# EAGLE library part 431183015816 (library Wurth_Elektronik_Electromechanic_Switchs_rev15b)
WS-TSS-5x5 mm J-Bend SMD Tact Switch with ground terminal, 4 pins
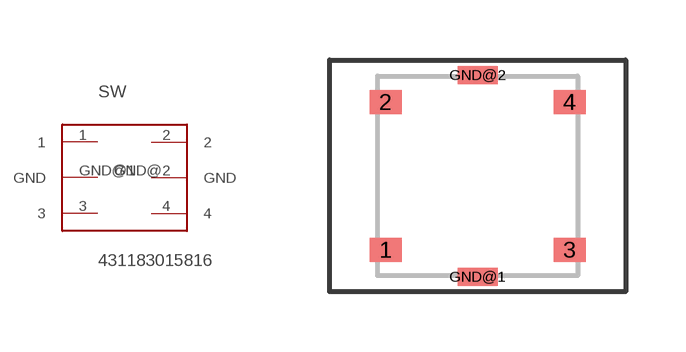
[diagram p139: symbol with the pads of 431183015816; footprint 431183015816]

Designator prefix SW

## 431183015816  [431183015816]
1  1
2  2
3  3
4  4
GND@1  GND
GND@2  GND

## Footprint 431183015816 (pad centres in mm)
WS-TSS-5x5 mm J-Bend SMD Tact Switch with ground terminal, 4 pins
smd 0.8 x 0.6: 1 -2.3,-1.85; 2 -2.3,1.85; 3 2.3,-1.85; 4 2.3,1.85
smd 1 x 0.45: GND@1 0,-2.525; GND@2 0,2.525